# EAGLE library part AD9833BRM (library AD9833BRM)
Direct Digital Synthesizer 25MHz 1-DAC 10-Bit Serial 10-Pin MSOP Tube Check availability <https://pricing.snapeda.com/parts/AD9833BRM/Analog%20Devices/view-part?ref=eda>
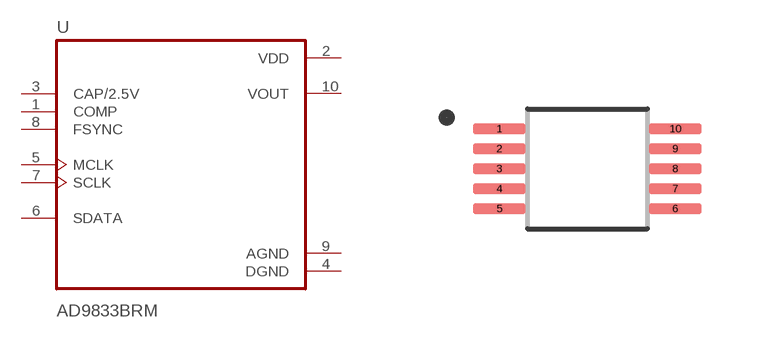
[diagram p0: symbol with the pads of SOP50P490X110-10N; footprint SOP50P490X110-10N]

Designator prefix U

## AD9833BRM (Availability: In Stock; Check_prices: https://www.snapeda.com/parts/AD9833BRM/Analog+Devices/view-part/?ref=eda; Description: Direct Digital Synthesis IC 10 b 25 MHz 28 b Tuning 10-MSOP; MF: Analog Devices; MP: AD9833BRM; Package: MSOP-10 Analog Devices; Price: None; Purchase-URL: https://www.snapeda.com/api/url_track_click_mouser/?unipart_id=107089&manufacturer=Analog Devices&part_name=AD9833BRM&search_term=ad9833; SnapEDA_Link: https://www.snapeda.com/parts/AD9833BRM/Analog+Devices/view-part/?ref=snap)  [SOP50P490X110-10N]
1  COMP  in
2  VDD  pwr
3  CAP/2.5V  in
4  DGND  pwr
5  MCLK  in
6  SDATA  in
7  SCLK  in
8  FSYNC  in
9  AGND  pwr
10  VOUT  out

## Footprint SOP50P490X110-10N (pad centres in mm)
smd 1.32 x 0.28: 1 -2.2,1; 2 -2.2,0.5; 3 -2.2,0; 4 -2.2,-0.5; 5 -2.2,-1; 6 2.2,-1; 7 2.2,-0.5; 8 2.2,0; 9 2.2,0.5; 10 2.2,1